# Altium footprint library DSK24.PcbLib: 1 footprints
Each footprint in its own frame and in the unit in brackets; x right, y up, seen from the top. Pads: shape width x height; smd on the part's side, far side on the other; paste and mask are expansions set on the pad; w line width, h text height; cw(c..) or ccw(c..) is an arc to the next point about the centre after c.
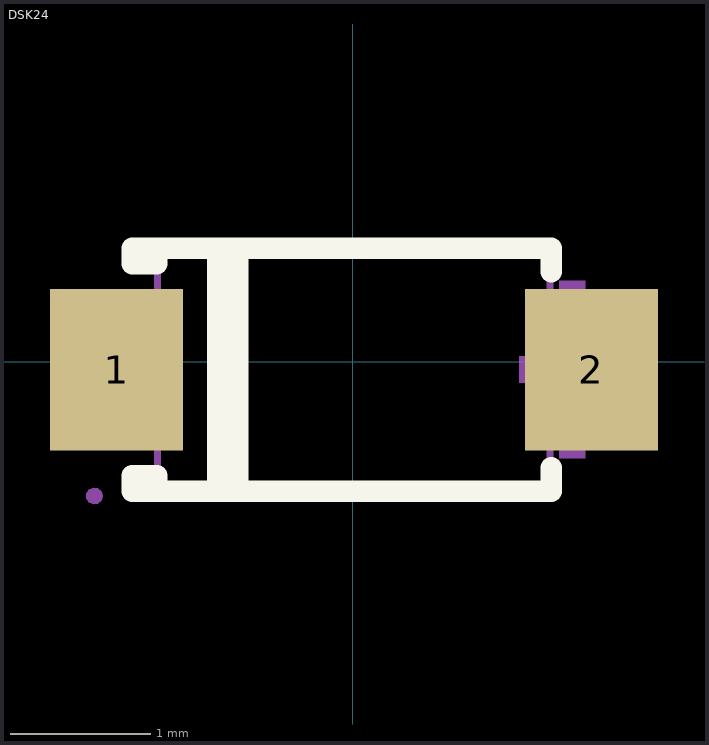
[diagram p0: the footprint, top view; thin cyan lines are the x and y axes]

## DSK24 [mil]
pads (2):
  rect 37.4x45.3 smd: 1(-66.3,-2.2) 2(67,-2.2)
Top Overlay:
  lines w6: -37.9,-36.3 -37.9,31.9 ; -32.2,-36.3 -32.2,31.9 ; 55.7,-29.7 55.7,-36.3 -55,-36.3 ; 55.7,25.3 55.7,31.9 -55,31.9 ; -55,-36.3 -61.9,-36.3 -61.9,-31.9 -55,-31.9 -55,-36.3 ; -55,31.9 -61.9,31.9 -61.9,27.5 -55,27.5 -55,31.9
Mechanical 2:
  region: -79.6,1.5 -79.6,-5.9 -49.7,-5.9 -49.7,1.5
  region: 76.5,1.6 76.5,-5.8 46.7,-5.8 46.7,1.6
  region: 65.3,22.8 65.3,-27 57.9,-27 57.9,22.8
Mechanical 6:
  lines w2: -54.8,-37.6 -54.8,33.2 55.4,33.2 55.4,-37.6 -54.8,-37.6
Mechanical 8:
  region: -70.2,-37.6 -70.5,-38.9 -71.5,-39.8 -72.9,-40 -74.1,-39.4 -74.8,-38.3 -74.8,-37 -74.1,-35.9 -72.9,-35.3 -71.5,-35.5 -70.5,-36.4
Mechanical 9:
  region: -72.5,-20.5 -72.5,16.1 -50.9,16.1 -50.9,-20.5
  region: 73.2,-20.5 73.2,16.1 51.5,16.1 51.5,-20.5